# Altium footprint library S_SLIDESWITCH_5MS3S102AM6QE.PcbLib: 1 footprints
Each footprint in its own frame and in the unit in brackets; x right, y up, seen from the top. Pads: shape width x height; smd on the part's side, far side on the other; paste and mask are expansions set on the pad; w line width, h text height; cw(c..) or ccw(c..) is an arc to the next point about the centre after c.
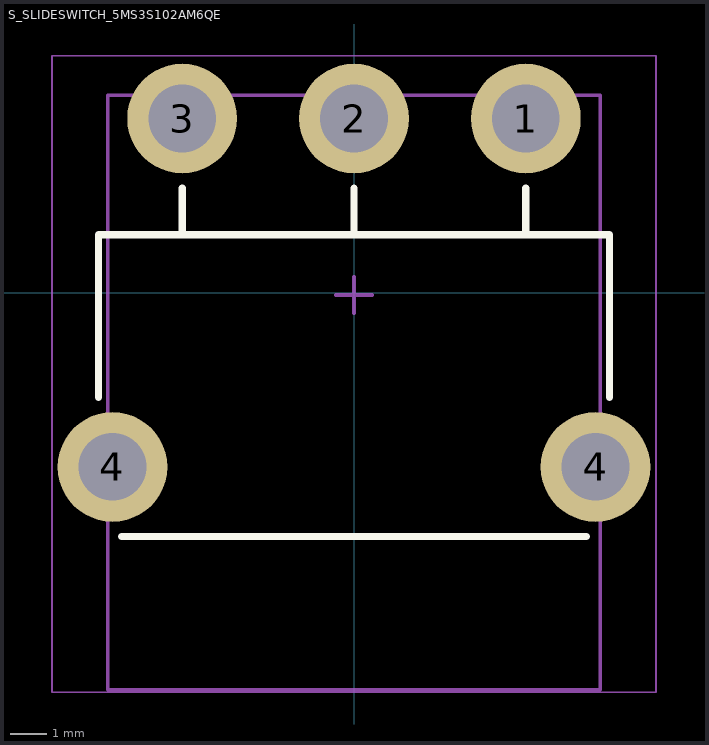
[diagram p0: the footprint, top view; thin cyan lines are the x and y axes]

## S_SLIDESWITCH_5MS3S102AM6QE [mm]
pads (5):
  round 3 hole 1.85: 1(4.699,4.763) 2(0,4.763) 3(-4.699,4.763) 4(-6.604,-4.763) 4(6.604,-4.763)
Top Overlay:
  lines w0.2: -6.985,-2.857 -6.985,1.587 6.985,1.587 6.985,-2.857 ; -6.35,-6.667 6.35,-6.667 ; -4.699,1.587 -4.699,2.857 ; 0,1.587 0,2.857 ; 4.699,1.587 4.699,2.857
Mechanical 13:
  lines w0.1: -6.731,-10.858 6.731,-10.858 6.731,5.397 -6.731,5.397 -6.731,-10.858
Mechanical 15:
  lines w0.05: -8.255,-10.922 8.255,-10.922 8.255,6.477 -8.255,6.477 -8.255,-10.922
  lines w0.1: -0.5,-0.064 0.5,-0.064 ; 0,-0.563 0,0.436
Mechanical 17:
  text ".Designator" at -5.08,-1.905 h1.27
Mechanical 19:
  text ".Comment" at -5.08,-1.905 h1.27
3D body "User Library-1101M2S3ABE2.step": height 6.6, standoff -3.17, extent -6.706,-10.843 6.706,5.397